# EAGLE library part L293E-ST (library Rizeni dvirek)
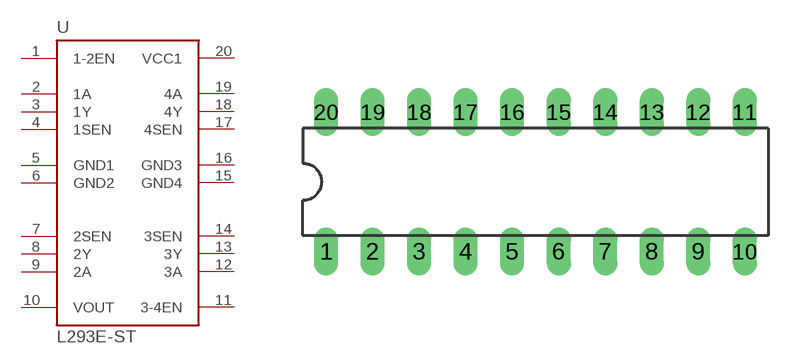
[diagram p67: symbol with the pads of DIL20; footprint DIL20]

Designator prefix U

## L293E-ST  [DIL20]
1  1-2EN  in
2  1A  in
3  1Y  out
4  1SEN  out
5  GND1  pwr
6  GND2  pwr
7  2SEN  out
8  2Y  out
9  2A  in
10  VOUT  pwr
11  3-4EN  in
12  3A  in
13  3Y  out
14  3SEN  out
15  GND4  pwr
16  GND3  pwr
17  4SEN  out
18  4Y  out
19  4A  in
20  VCC1  pwr

## Footprint DIL20 (pad centres in mm)
Dual In Line Package
drill 0.813 long: 1 -11.43,-3.81; 2 -8.89,-3.81; 3 -6.35,-3.81; 4 -3.81,-3.81; 5 -1.27,-3.81; 6 1.27,-3.81; 7 3.81,-3.81; 8 6.35,-3.81; 9 8.89,-3.81; 10 11.43,-3.81; 11 11.43,3.81; 12 8.89,3.81; 13 6.35,3.81; 14 3.81,3.81; 15 1.27,3.81; 16 -1.27,3.81; 17 -3.81,3.81; 18 -6.35,3.81; 19 -8.89,3.81; 20 -11.43,3.81